# Altium footprint library fuse.PCBLIB: 27 footprints (part 2 of 2)
Each footprint in its own frame and in the unit in brackets; x right, y up, seen from the top. Pads: shape width x height; smd on the part's side, far side on the other; paste and mask are expansions set on the pad; w line width, h text height; cw(c..) or ccw(c..) is an arc to the next point about the centre after c.
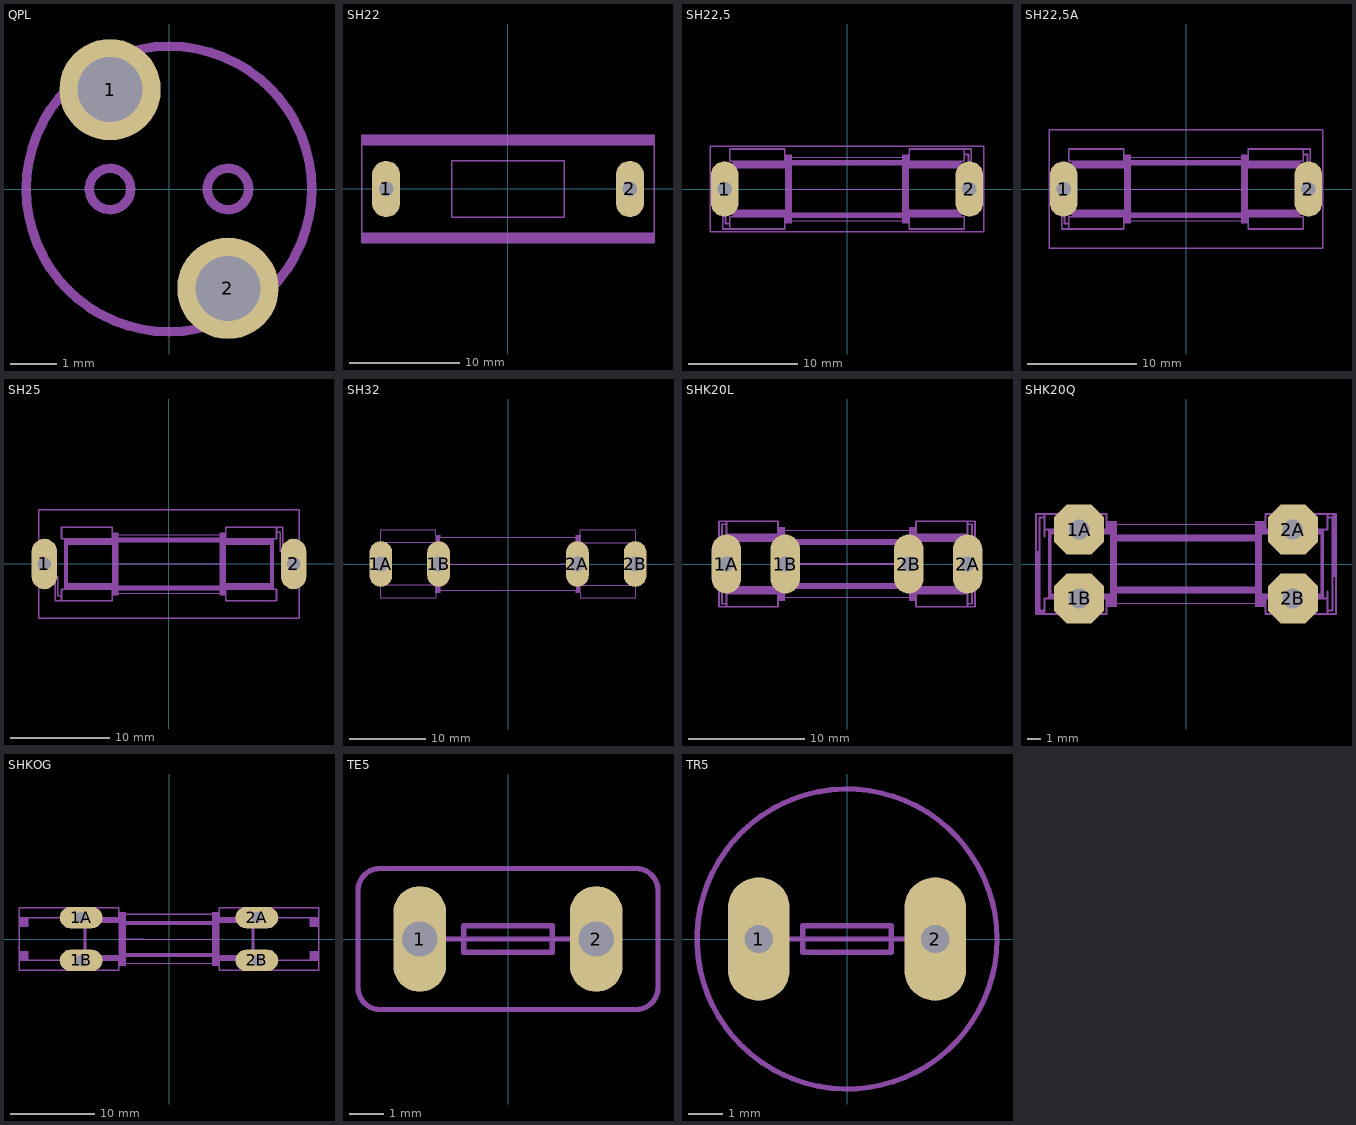
[diagram p1: the footprints below, top view; thin cyan lines are the x and y axes]

## QPL [mil]
pads (2):
  round 86 hole 55.12: 1(-50,84.2) 2(50,-84.2)
Mechanical 2:
  circle w8: c0,0 r121.07
  circle w8: c-50,0 r17.52
  circle w8: c50,0 r17.52

## SH22 [mil]
pads (2):
  oval 100x200 hole 52: 1(-433,0) 2(433,0)
Mechanical 2:
  rectangle: -520,155 520,190
  rectangle: -520,-190 520,-155
  lines w6: -520,-190 520,-190 520,190 -520,190 -520,-190 ; -200,-100 200,-100 200,100 -200,100 -200,-100

## SH22,5 [mil]
pads (2):
  oval 100x200 hole 52: 1(-443,0) 2(443,0)
Mechanical 2:
  rectangle: -225,-125 -200,-80
  rectangle: -225,80 -200,125
  rectangle: -225,-80 -200,80
  rectangle: 200,80 225,125
  rectangle: 200,-125 225,-80
  rectangle: 200,-80 225,80
  rectangle: -200,85 200,105
  rectangle: -200,-105 200,-85
  rectangle: 225,-80 380,-75
  rectangle: 225,75 380,80
  rectangle: -380,75 -225,80
  rectangle: -380,-80 -225,-75
  rectangle: -415,-100 -225,-80
  rectangle: -415,80 -225,100
  rectangle: 225,80 415,100
  rectangle: 225,-100 415,-80
  lines w2: -205,0 205,0 ; -200,-115 200,-115 ; -200,115 200,115
  lines w6: -495,-65 -495,-155 495,-155 495,-65 ; -495,65 -495,155 495,155 495,65 ; -450,-80 -450,-145 -425,-145 ; -440,-80 -440,-125 -425,-125 ; 440,80 440,125 425,125 ; 450,80 450,145 425,145 ; -425,-145 -425,-125 ; -425,-145 -225,-145 -225,-100 -425,-100 -425,-125 ; 425,125 425,145 ; 425,125 425,100 225,100 225,145 425,145 ; -425,100 -425,145 -225,145 -225,100 -425,100 ; 225,-145 425,-145 425,-100 225,-100 225,-145
Mechanical 18:
  rectangle: -415,-80 -400,80
  rectangle: -415,75 -380,80
  rectangle: -415,-80 -380,-75
  rectangle: 400,-80 415,80
  rectangle: 380,-80 415,-75
  rectangle: 380,75 415,80
  lines w6: -495,-65 -495,65 ; -450,-80 -450,-50 -440,-50 -440,-80 ; 440,80 440,50 450,50 450,80 ; 495,-65 495,65

## SH22,5A [mil]
pads (2):
  oval 100x200 hole 52: 1(-443,0) 2(443,0)
Mechanical 2:
  rectangle: -225,-125 -200,-80
  rectangle: -225,80 -200,125
  rectangle: -225,-80 -200,80
  rectangle: 200,80 225,125
  rectangle: 200,-125 225,-80
  rectangle: 200,-80 225,80
  rectangle: -200,85 200,105
  rectangle: -200,-105 200,-85
  rectangle: 225,-80 380,-75
  rectangle: 225,75 380,80
  rectangle: -380,75 -225,80
  rectangle: -380,-80 -225,-75
  rectangle: -415,-100 -225,-80
  rectangle: -415,80 -225,100
  rectangle: 225,80 415,100
  rectangle: 225,-100 415,-80
  lines w2: -205,0 205,0 ; -200,-115 200,-115 ; -200,115 200,115
  lines w6: -495,-65 -495,-215 495,-215 495,-65 ; -495,65 -495,215 495,215 495,65 ; -450,-80 -450,-145 -425,-145 ; -440,-80 -440,-125 -425,-125 ; 440,80 440,125 425,125 ; 450,80 450,145 425,145 ; -425,-145 -425,-125 ; -425,-145 -225,-145 -225,-100 -425,-100 -425,-125 ; 425,125 425,145 ; 425,125 425,100 225,100 225,145 425,145 ; -425,100 -425,145 -225,145 -225,100 -425,100 ; 225,-145 425,-145 425,-100 225,-100 225,-145
Mechanical 18:
  rectangle: -415,-80 -400,80
  rectangle: -415,75 -380,80
  rectangle: -415,-80 -380,-75
  rectangle: 400,-80 415,80
  rectangle: 380,-80 415,-75
  rectangle: 380,75 415,80
  lines w6: -495,-65 -495,65 ; -450,-80 -450,-50 -440,-50 -440,-80 ; 440,80 440,50 450,50 450,80 ; 495,-65 495,65

## SH25 [mil]
pads (2):
  oval 100x200 hole 52: 1(-493,0) 2(493,0)
Mechanical 2:
  rectangle: -415,-80 -400,80
  rectangle: -415,75 -380,80
  rectangle: -415,-80 -380,-75
  rectangle: -225,-125 -200,-80
  rectangle: -225,80 -200,125
  rectangle: -225,-80 -200,80
  rectangle: 400,-80 415,80
  rectangle: 380,-80 415,-75
  rectangle: 380,75 415,80
  rectangle: 200,80 225,125
  rectangle: 200,-125 225,-80
  rectangle: 200,-80 225,80
  rectangle: -200,85 200,105
  rectangle: -200,-105 200,-85
  rectangle: 225,-80 380,-75
  rectangle: 225,75 380,80
  rectangle: -380,75 -225,80
  rectangle: -380,-80 -225,-75
  rectangle: -415,-100 -225,-80
  rectangle: -415,80 -225,100
  rectangle: 225,80 415,100
  rectangle: 225,-100 415,-80
  lines w2: -205,0 205,0 ; -200,-115 200,-115 ; -200,115 200,115
  lines w6: -515,-80 -515,-215 515,-215 515,-80 ; -515,80 -515,215 515,215 515,80 ; -450,-80 -450,-145 -425,-145 ; -440,-80 -440,-125 -425,-125 ; 440,80 440,125 425,125 ; 450,80 450,145 425,145 ; -425,-145 -425,-125 ; -425,-145 -225,-145 -225,-100 -425,-100 -425,-125 ; 425,125 425,145 ; 425,125 425,100 225,100 225,145 425,145 ; -425,100 -425,145 -225,145 -225,100 -425,100 ; 225,-145 425,-145 425,-100 225,-100 225,-145
Mechanical 18:
  lines w6: -515,-80 -515,80 ; -450,-80 -450,-50 -440,-50 -440,-80 ; 440,80 440,50 450,50 450,80 ; 515,-80 515,80

## SH32 [mil]
pads (4):
  oval 118.5x237 hole 79: 1A(-660,0) 1B(-360,0) 2A(360,0) 2B(660,0)
Mechanical 2:
  rectangle: 355,-150 375,-85
  rectangle: 355,85 375,150
  rectangle: -375,-150 -355,-85
  rectangle: -375,85 -355,150
  lines w2: -275,0 275,0
  lines w6: -660,-80 -660,-110 ; -660,80 -660,110 ; -630,-80 -630,-110 ; -630,80 -630,110 ; -355,-80 -355,-140 ; -355,80 -355,140 ; -350,-140 350,-140 ; -350,140 350,140 ; 355,-80 355,-140 ; 355,80 355,140 ; 630,-80 630,-110 ; 630,80 630,110 ; 660,-80 660,-110 ; 660,80 660,110 ; -660,-110 -660,-175 -375,-175 -375,-150 ; -660,-110 -630,-110 ; -660,110 -660,175 -375,175 -375,150 ; -660,110 -630,110 ; -630,-110 -375,-110 -375,-150 ; -630,110 -375,110 -375,150 ; -375,-150 -355,-150 -355,-140 ; -375,150 -355,150 -355,140 ; -355,-140 350,-140 ; -355,140 350,140 ; 350,-140 355,-140 ; 350,140 355,140 ; 355,-140 355,-150 375,-150 ; 355,140 355,150 375,150 ; 375,-150 375,-175 660,-175 660,-110 ; 375,-150 375,-110 630,-110 ; 375,150 375,175 660,175 660,110 ; 375,150 375,110 630,110 ; 630,-110 660,-110 ; 630,110 660,110
Mechanical 18:
  rectangle: 355,-85 375,85
  rectangle: -375,-85 -355,85
  lines w2: -355,0 -275,0 ; 275,0 355,0
  lines w6: -660,-80 -660,80 ; -630,-80 -630,80 ; -355,-80 -355,0 -355,80 ; 355,-80 355,0 355,80 ; 630,-80 630,80 ; 660,-80 660,80

## SHK20L [mil]
pads (4):
  oval 100x200 hole 52: 1A(-410,0) 1B(-210,0) 2A(410,0) 2B(210,0)
Mechanical 2:
  rectangle: -235,-125 -210,-80
  rectangle: -235,80 -210,125
  rectangle: 210,80 235,125
  rectangle: 210,-125 235,-80
  rectangle: -410,-100 -235,-80
  rectangle: -160,-85 160,-65
  rectangle: -160,65 160,85
  rectangle: 245,-80 370,-75
  rectangle: 245,75 370,80
  rectangle: 235,80 395,100
  rectangle: 235,-100 395,-80
  rectangle: -395,80 -235,100
  rectangle: -370,75 -245,80
  rectangle: -370,-80 -245,-75
  lines w2: -210,-115 210,-115 ; -210,115 210,115
  lines w6: -435,-80 -435,-145 -410,-145 ; -435,80 -435,145 -410,145 ; -425,-80 -425,-135 -410,-135 ; -425,80 -425,135 -410,135 ; -130,0 130,0 ; 425,-80 425,-135 410,-135 ; 425,80 425,135 410,135 ; 435,-80 435,-145 410,-145 ; 435,80 435,145 410,145 ; -410,-145 -410,-135 ; -410,-145 -235,-145 -235,-100 -410,-100 -410,-135 ; -410,135 -410,145 ; -410,135 -410,100 -235,100 -235,145 -410,145 ; 410,-145 235,-145 235,-100 410,-100 410,-135 ; 410,-145 410,-135 ; 410,135 410,145 ; 410,135 410,100 235,100 235,145 410,145
Mechanical 18:
  rectangle: -395,-80 -380,80
  rectangle: -235,-80 -210,80
  rectangle: 380,-80 395,80
  rectangle: 210,-80 235,80
  rectangle: 160,65 210,85
  rectangle: 160,-85 210,-65
  rectangle: -210,65 -160,85
  rectangle: -210,-85 -160,-65
  rectangle: -245,75 -235,80
  rectangle: 235,75 245,80
  rectangle: 235,-80 245,-75
  rectangle: 370,75 380,80
  rectangle: 370,-80 380,-75
  rectangle: -380,75 -370,80
  rectangle: -245,-80 -235,-75
  rectangle: -380,-80 -370,-75
  lines w6: -435,-80 -435,-50 ; -435,80 -435,-50 ; -425,-80 -425,-50 ; -425,80 -425,-50 ; -210,0 -130,0 ; 130,0 210,0 ; 425,-80 425,50 ; 425,80 425,50 ; 435,-80 435,50 ; 435,80 435,50 ; -435,-50 -425,-50 ; 425,50 435,50

## SHK20Q [mil]
pads (4):
  oct 145.24x145.24 hole 59.06: 1A(-310,100) 1B(-310,-100) 2A(310,100) 2B(310,-100)
Mechanical 2:
  rectangle: -200,65 200,85
  rectangle: -200,-85 200,-65
  rectangle: 200,-125 220,125
  rectangle: 425,-35 435,145
  rectangle: -425,-145 -410,-135
  rectangle: -220,-125 -200,125
  rectangle: -435,-145 -425,35
  rectangle: 220,-125 230,-85
  rectangle: 220,85 230,125
  rectangle: 390,-100 400,100
  rectangle: -400,-100 -390,100
  rectangle: -230,85 -220,125
  rectangle: -230,-125 -220,-85
  lines w2: -200,-115 200,-115 ; -200,0 200,0 ; -200,115 200,115
  lines w6: -410,80 -410,100 ; -390,-100 -410,-100 -410,-135 ; -390,100 -410,100 ; -380,-145 -410,-145 ; -380,145 -410,145 ; -240,-145 -230,-145 -230,-100 ; -240,145 -230,145 -230,100 ; 230,-100 230,-145 240,-145 ; 230,100 230,145 240,145 ; 380,-145 410,-145 ; 380,145 410,145 ; 390,-100 410,-100 ; 390,100 410,100 410,135 ; 410,-80 410,-100 ; -435,35 -435,-145 -410,-145 ; -435,35 -425,35 ; -435,35 -435,145 -410,145 ; -425,35 -425,-135 -410,-135 ; -425,35 -425,135 -410,135 ; -410,-145 -410,-135 ; -410,100 -410,135 ; -410,135 -410,145 ; 410,-145 410,-135 ; 410,-145 435,-145 435,-35 ; 410,-135 425,-135 425,-35 ; 410,-135 410,-100 ; 410,135 410,145 ; 410,135 425,135 425,-35 ; 410,145 435,145 435,-35 ; 425,-35 435,-35
Mechanical 18:
  rectangle: 230,-100 390,-85
  rectangle: 230,85 390,100
  rectangle: -390,85 -230,100
  rectangle: -390,-100 -230,-85
  lines w6: -390,-100 -230,-100 ; -390,100 -230,100 ; -380,-145 -240,-145 ; -380,145 -240,145 ; 230,-100 390,-100 ; 230,100 390,100 ; 240,-145 380,-145 ; 240,145 380,145

## SHKOG [mil]
pads (4):
  oval 200x100 hole 52: 1A(-410,100) 1B(-410,-100) 2A(410,100) 2B(410,-100)
Mechanical 2:
  rectangle: 655,-100 700,-55
  rectangle: 655,55 700,100
  rectangle: 225,-100 335,-75
  rectangle: 225,75 335,100
  rectangle: -200,-85 200,-65
  rectangle: -200,65 200,85
  rectangle: -700,55 -655,100
  rectangle: -700,-100 -655,-55
  rectangle: -335,75 -225,100
  rectangle: -335,-100 -225,-75
  rectangle: -200,65 200,85
  rectangle: -200,-85 200,-65
  rectangle: 385,-35 400,35
  rectangle: -400,-35 -385,35
  rectangle: 200,-125 235,125
  rectangle: -235,-125 -200,125
  lines w2: -200,-115 200,-115 ; -200,0 200,0
  lines w6: -480,-100 -700,-100 ; -480,100 -700,100 ; -460,-145 -480,-145 ; -460,-55 -480,-55 -480,-145 ; -460,55 -480,55 -480,145 ; -460,145 -480,145 ; -360,-145 -235,-145 -235,-100 -340,-100 ; -360,145 -235,145 -235,100 -340,100 ; -200,115 200,115 ; 340,-100 235,-100 235,-145 360,-145 ; 340,100 235,100 235,145 360,145 ; 460,-145 480,-145 ; 460,-55 480,-55 480,-145 ; 460,55 480,55 480,145 ; 460,145 480,145 ; 480,-100 700,-100 ; 480,100 700,100 ; -700,-100 -700,-145 -480,-145 ; -700,-100 -700,100 ; -700,100 -700,145 -480,145 ; 480,-145 700,-145 700,-100 ; 480,145 700,145 700,100 ; 700,-100 700,100
Mechanical 18:
  rectangle: 435,-100 480,-55
  rectangle: 435,55 480,100
  rectangle: 335,-100 400,-75
  rectangle: 335,75 400,100
  rectangle: -480,55 -435,100
  rectangle: -480,-100 -435,-55
  rectangle: -400,75 -335,100
  rectangle: -400,-100 -335,-75
  rectangle: 385,35 400,75
  rectangle: 385,-75 400,-35
  rectangle: -400,35 -385,75
  rectangle: -400,-75 -385,-35
  lines w2: -200,0 -120,0
  lines w6: -480,-100 -435,-100 ; -480,100 -435,100 ; -460,-145 -435,-145 ; -460,-55 -435,-55 -435,-100 ; -460,55 -435,55 -435,100 ; -460,145 -435,145 ; -360,-145 -435,-145 ; -360,145 -435,145 ; -340,-100 -435,-100 ; -340,100 -435,100 ; 340,-100 435,-100 ; 340,100 435,100 ; 360,-145 435,-145 ; 360,145 435,145 ; 460,-145 435,-145 ; 460,-55 435,-55 435,-100 ; 460,55 435,55 435,100 ; 460,145 435,145 ; 480,-100 435,-100 ; 480,100 435,100 ; -435,-145 -435,-100 ; -435,100 -435,145 ; 435,-145 435,-100 ; 435,100 435,145

## TE5 [mil]
pads (2):
  oval 60x120 hole 40: 1(-100,0) 2(100,0)
Mechanical 2:
  lines w6: -170,-55 ccw(c-145,-55) -145,-80 145,-80 ccw(c145,-55) 170,-55 170,55 ccw(c145,55) 145,80 -145,80 ccw(c-145,55) -170,55 -170,-55
Mechanical 18:
  lines w6: -85,0 85,0 ; -50,-15 -50,15 50,15 50,-15 -50,-15

## TR5 [mil]
pads (2):
  oval 70x140 hole 32: 1(-100,0) 2(100,0)
Mechanical 2:
  circle w6: c0,0 r170
Mechanical 18:
  lines w6: -85,0 85,0 ; -50,-15 -50,15 50,15 50,-15 -50,-15